# Altium schematic symbol library tactile_switch.SchLib: 1 symbol
Pins are listed as number, name and electrical type; pins without a type are passive.

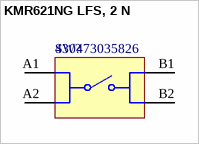
[diagram p0: symbol KMR621NG LFS, 2 N]

## KMR621NG LFS, 2 N
designator SW?, comment 430473035826
Switch Tactile Spst-no 0.05A 12V; Throw Configuration: SPST; Switch Travel: 250µm; Actuator Material: Liquid Crystal Polymer, Polymer; Current Rating: 50mA; Insulation Resistance: 100MΩ; Illumination Type: Non-Illuminated; Switch Function: Off-Mom; Mechanical Life: 500kcycles; Voltage Rating: 12V; Max Operating Temperature: 85°C; Packaging: Tape and Reel; RoHS: Compliant; Height: 3.5mm; Contact Plating: Silver; Mount: Surface Mount; Min Operating Temperature: -40°C
footprint 430473035826 (SMD Tact Switch, body 6x6mm)
pins: A1, A2, B1, B2